# Altium footprint library Miscellaneous_Lib1.PcbLib: 3 footprints
Each footprint in its own frame and in the unit in brackets; x right, y up, seen from the top. Pads: shape width x height; smd on the part's side, far side on the other; paste and mask are expansions set on the pad; w line width, h text height; cw(c..) or ccw(c..) is an arc to the next point about the centre after c.
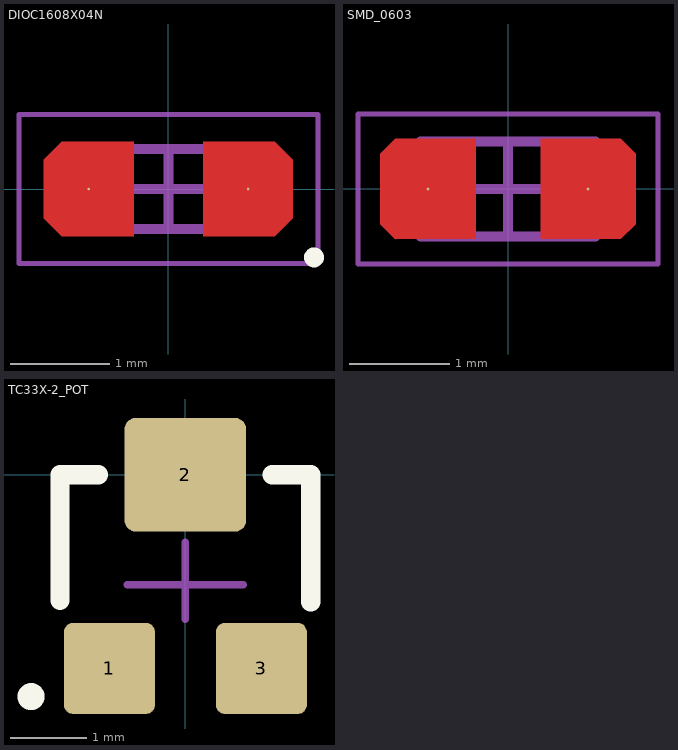
[diagram p0: the footprints below, top view; thin cyan lines are the x and y axes]

## DIOC1608X04N [mil] "Chip Diode, 2-Leads, Body 1.60x0.80mm, IPC Medium Density"
height 15.75
pads (2):
  round 1 smd: 1(-31.5,0) 2(31.5,0)
Top Layer:
  region: 13.78,-18.7 42.13,-18.7 49.21,-11.61 49.21,11.61 42.13,18.7 13.78,18.7
  region: -49.21,-11.61 -42.13,-18.7 -13.78,-18.7 -13.78,18.7 -42.13,18.7 -49.21,11.61
Top Overlay:
  circle w3.94: c57.56,-27.05 r1.97
Mechanical 13:
  lines w3.94: -31.5,-15.75 31.5,-15.75 31.5,15.75 -31.5,15.75 -31.5,-15.75
Mechanical 15:
  lines w1.97: -59.06,-29.53 59.06,-29.53 59.06,29.53 -59.06,29.53 -59.06,-29.53
  lines w3.94: -15.75,0 15.75,0 ; 0,-15.75 0,15.75
3D body "User Library-LED0603_GREEN.step": height 31.5, standoff 0, extent -31.5,-15.75 31.5,15.75

## SMD_0603 [mil]
pads (2):
  round 1 smd: 1(-31.5,0) 2(31.5,0)
Top Layer:
  region: -50.2,-13.8 -50.2,13.8 -44.31,19.69 -12.8,19.69 -12.8,-19.69 -44.31,-19.69
  region: 12.8,-19.69 12.8,19.69 44.31,19.69 50.2,13.8 50.2,-13.8 44.31,-19.69
Mechanical 13:
  lines w3.94: -34.45,-18.7 -34.45,18.7 34.45,18.7 34.45,-18.7 -34.45,-18.7
Mechanical 15:
  lines w1.97: -59.06,-29.53 -59.06,29.53 59.06,29.53 59.06,-29.53 -59.06,-29.53
  lines w3.94: -18.7,0 18.7,0 ; 0,-18.7 0,18.7
3D body "User Library-CR1608-0603.step": height 17.72, standoff 0, extent -31.5,-15.75 31.5,15.75

## TC33X-2_POT [mm] "100K_potentiometer_SMD"
pads (3):
  rrect20% 1.2x1.2 smd: 1(-1,-2.55) 3(1,-2.55)
  rrect20% 1.6x1.5 smd: 2(0,0)
Top Overlay:
  circle w0.254: c-2.032,-2.921 r0.051
  lines w0.254: -1.651,-1.651 -1.651,0 -1.143,0 ; 1.143,0 1.651,0 1.651,-1.676
Mechanical 15:
  lines w0.1: -0.762,-1.45 0.762,-1.45 ; 0,-1.905 0,-0.889
3D body "User Library-TC-33X-2.step": height 1.13, standoff -0.02, extent -1.797,-3.124 1.803,0.838